# Altium schematic symbol library TI Power Management DC-DC Controller (External Switch).SchLib: 349 symbols (part 12 of 26)
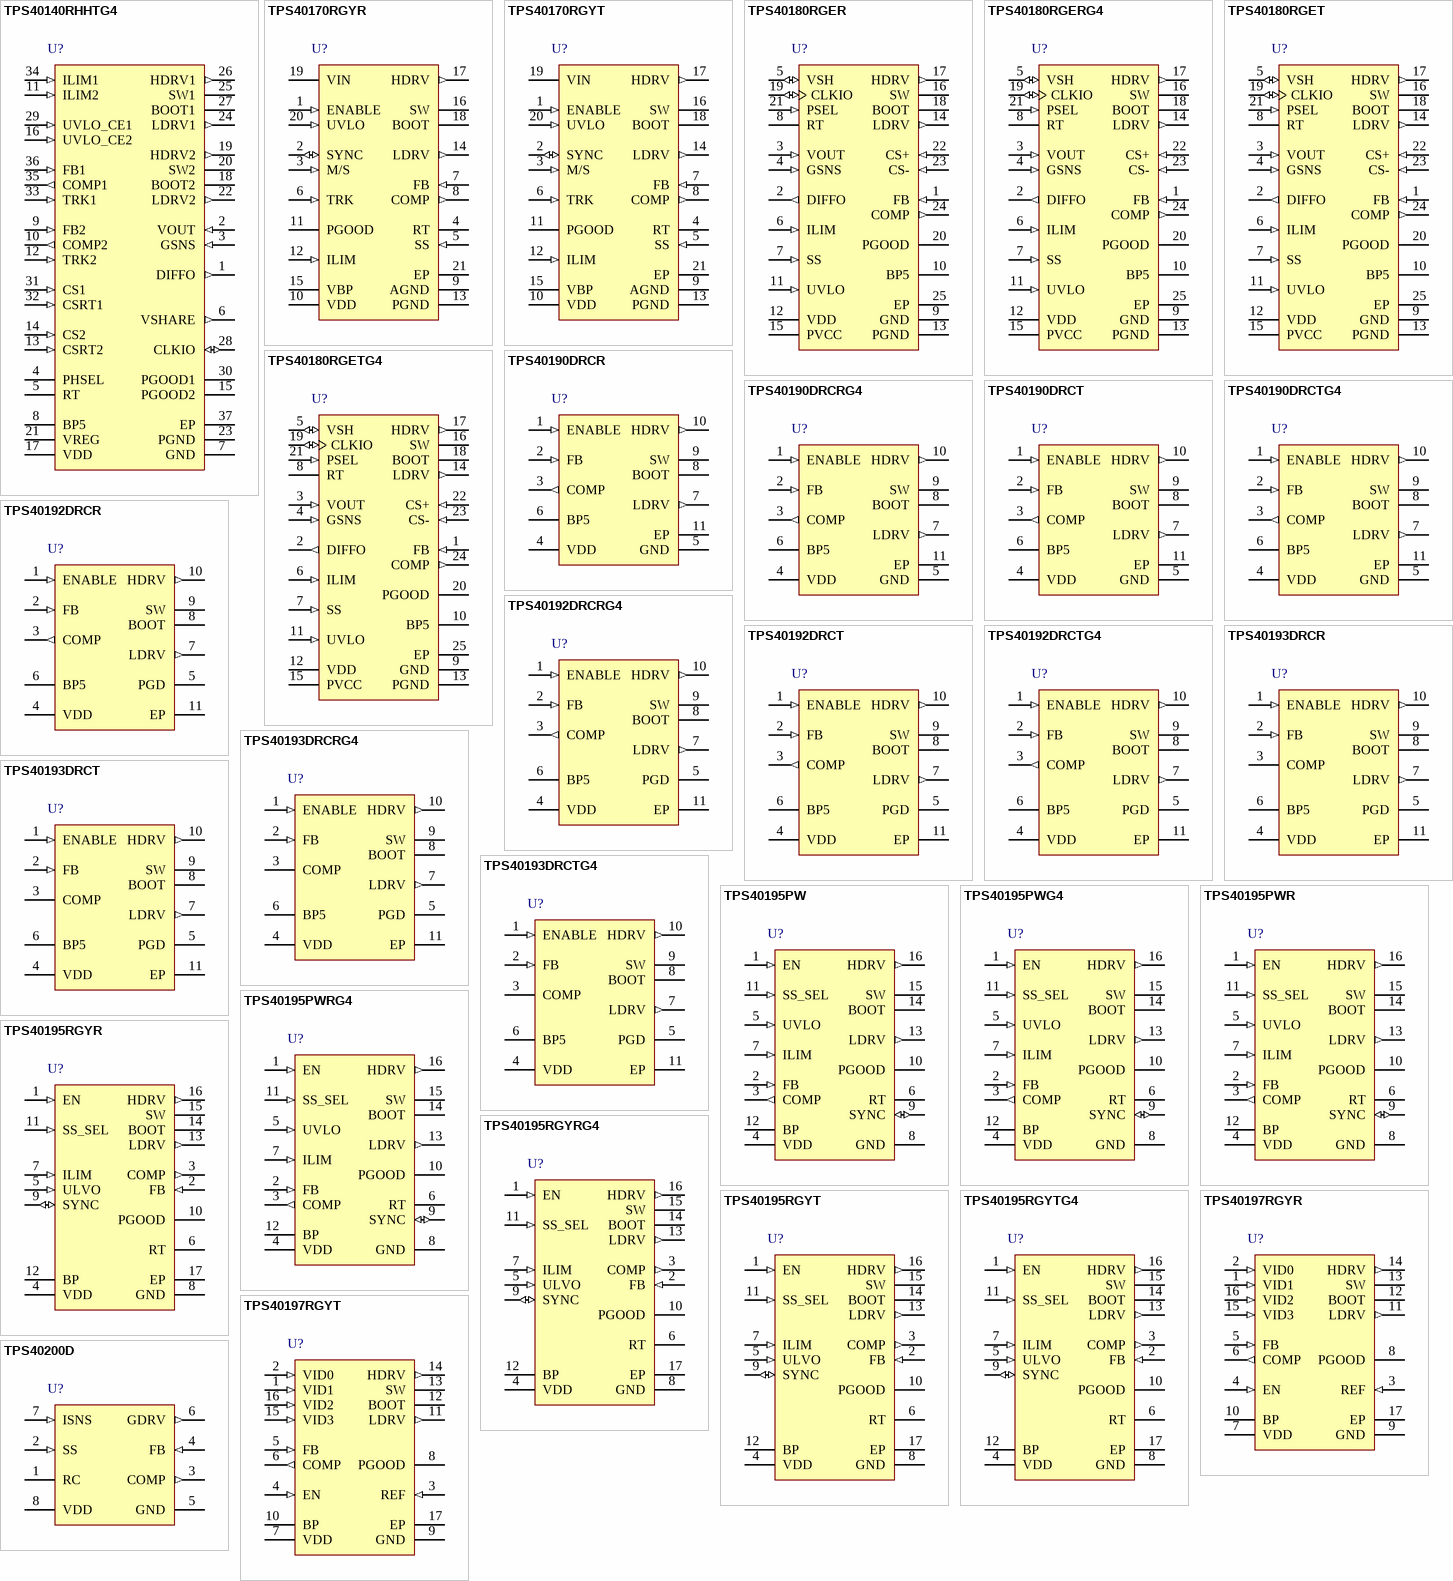
[diagram p25: symbols TPS40140RHHTG4 to TPS40200D]

## TPS40180RGER
designator U?
Single Phase Stackable Controller, 87.5 % Duty Cycle, 2 to 40 V, -40 to 85 degC, 24-pin VQFN (RGE), Green (RoHS & no Sb/Br); Manufacturer: Texas Instruments; PartNumber: TPS40180RGER; Duty Cycle(Max)(%): 87.5; Iout(Max)(A): 25; Regulated Outputs(#): 1; SubFamily: Step-Down Controller; Switching Frequency(Max)(kHz): 1000; Synchronous Rectification: TRUE; Topology: Stackable Multiphase; Vin(Max)(V): 40; Vin(Min)(V): 2; Vout(Max)(V): 5.8; Vout(Min)(V): 0.7; DatasheetVersion: SLVS753B; PackageVersion: revG, Jul-2011; PackageReference: RGE24-2450X2450TP; PackageDescription: 24-Pin Plastic Quad Flatpack No-Lead, 4 x 4 mm Body, 0.5 mm Pitch; Supplier 1: Digi-Key; Supplier Part Number 1: 296-21973-2-ND; Eco-Plan: Green (RoHS & no Sb/Br); Mounting Technology: Surface Mount; Code_JEDEC: MO-220; ComponentLink1Description: Datasheet; ComponentLink1URL: http://www.ti.com/general/docs/lit/getliterature.tsp?genericPartNumber=TPS40180&fileType=pdf; ComponentLink2Description: Package Specification; ComponentLink2URL: http://www.ti.com/litv/pdf/mpqf124f
footprint RGE24-2450X2450TP (QFN, 24-Leads, Body 4x4mm, Pitch 0.5mm, Thermal Pad 2.45x2.45mm, TI Recommended)
pins: 1 FB (in) "Inverting input to the internal error amplifier. Normally this pin is at the reference voltage of 700 mV.", 2 DIFFO (out) "Output of the remote sense amplifier. Amplifier is fixed gain of 1 differential mode and is used for output voltage sensing at the load to eliminate distribution drops.", 3 VOUT (in) "Positive input to the remote sense amplifier. Amplifier is fixed gain of 1 differential mode and is used for output voltage sensing at the load to eliminate distribution drops.", 4 GSNS (in) "Negative input to the remote sense amplifier. Amplifier is fixed gain of 1 differential mode and is used for output voltage sensing at the load to eliminate distribution drops.", 5 VSH (io) "Pin is either an input or an output. If the chip is configured as a voltage loop master the valley voltage is output on this pin and is distributed to the slave devices. If configured as a voltage loop slave, the master VSH (See Datasheet)", 6 ILIM (in) "Programs the overcurrent limit of the device. Connecting a resistor from this pin to VSH and another to VOUT on the voltage loop master sets a voltage above VSH. COMP is not allowed to exceed this voltage. If the load (See Datasheet)", 7 SS (in) "Soft-start input. This pin determines the startup ramp time for the converter as well as overcurrent and other fault recovery timing. The voltage at this pin is applied as a reference to the error amplifier. While this (See Datasheet)", 8 RT "Frequency programming pin. Connecting a resistor from this pin to GND sets the switching frequency of the device. If this pin is connected to VDD or PVCC, the device is a clock slave and gets its time base from CLKIO of the (See Datasheet)", 9 GND (power) "Signal level ground connection for the device. All low level signals at the device should be referenced to this pin. No power level current should be allowed to flow through the GND pin copper areas on the board. Connect to (See Datasheet)", 10 BP5 (power) "Electrically quiet 5-V supply for the internal circuitry inside the device. If VDD is above 5 V, connect a 20-ohm resistor from PVCC to this pin and a 100-nF capacitor from this pin to GND. For VDD at 5 V, this pin can be (See Datasheet)", 11 UVLO (in) "UVLO input for the device. A resistor divider from VDD sets the turn on voltage for the device. Below this voltage, the device is in a low quiescent current state. Pulling this pin to ground shuts down the device, and is (See Datasheet)", 12 VDD (power) "Power input for the LDO on the device.", 13 PGND (power) "Common connection for the power circuits on the device. This pin should be electrically close to the source of the FET connected to LDRV. Connected to GND only at the thermal pad for best results.", 14 LDRV (out) "Gate drive output for the low-side or rectifier FET.", 15 PVCC (power) "Output of the on board LDO. This is the power input for the drivers and bootstrap circuit. The 5.3-V output on this pin is used for external circuitry as long as the total current required to drive the gates of the switching (See Datasheet)", 16 SW (power) "This pin is connected to the source of the high-side or switch FET and is the return path for the floating high-side driver.", 17 HDRV (out) "Gate drive output for the high-side FET. High-side FET turn-on time must not be greater than minimum on-time. See electrical characteristics table for the minimum on time of the pulse width modulator.", 18 BOOT (power) "Bootstrap pin for the high-side driver. A 100-nF capacitor is connected from this pin to SW and provides power to the high-side driver when the high-side FET is turned on.", 19 CLKIO (io) "Clock and phase timing output while the device is configured as a clock master. In clock slave mode, the master CLKIO pin is connected to the slave CLKIO pin to provide time base information to the slave.", 20 PGOOD (oc) "Power good output. This open drain output pulls low when the device is in any state other than in normal regulation. Active soft-start, UVLO, overcurrent, undervoltage, overvoltage or overtemperature warning (115degreesC (See Datasheet)", 21 PSEL (in) "Phase select pin. For a clock master, a resistor from this pin to GND determines the CLKIO output. When configured as a clock slave, a resistor from the pin to GND selects the phase relationship that the slave has with the (See Datasheet)", 22 CS+ (in) "Positive input to the current sense amplifier.", 23 CS- (in) "Negative input to the current sense amplifier", 24 COMP (out) "Output of the error amplifier.", 25 EP (power) "Exposed Thermal Pad."

## TPS40180RGERG4
designator U?
Single Phase Stackable Controller, 87.5 % Duty Cycle, 2 to 40 V, -40 to 85 degC, 24-pin VQFN (RGE), Green (RoHS & no Sb/Br); Manufacturer: Texas Instruments; PartNumber: TPS40180RGERG4; Duty Cycle(Max)(%): 87.5; Iout(Max)(A): 25; Regulated Outputs(#): 1; SubFamily: Step-Down Controller; Switching Frequency(Max)(kHz): 1000; Synchronous Rectification: TRUE; Topology: Stackable Multiphase; Vin(Max)(V): 40; Vin(Min)(V): 2; Vout(Max)(V): 5.8; Vout(Min)(V): 0.7; DatasheetVersion: SLVS753B; PackageVersion: revG, Jul-2011; PackageReference: RGE24-2450X2450TP; PackageDescription: 24-Pin Plastic Quad Flatpack No-Lead, 4 x 4 mm Body, 0.5 mm Pitch; Supplier 1: Digi-Key; Supplier Part Number 1: TPS40180RGERG4-ND; Eco-Plan: Green (RoHS & no Sb/Br); Mounting Technology: Surface Mount; Code_JEDEC: MO-220; ComponentLink1Description: Datasheet; ComponentLink1URL: http://www.ti.com/general/docs/lit/getliterature.tsp?genericPartNumber=TPS40180&fileType=pdf; ComponentLink2Description: Package Specification; ComponentLink2URL: http://www.ti.com/litv/pdf/mpqf124f
footprint RGE24-2450X2450TP (QFN, 24-Leads, Body 4x4mm, Pitch 0.5mm, Thermal Pad 2.45x2.45mm, TI Recommended)
pins: 1 FB (in) "Inverting input to the internal error amplifier. Normally this pin is at the reference voltage of 700 mV.", 2 DIFFO (out) "Output of the remote sense amplifier. Amplifier is fixed gain of 1 differential mode and is used for output voltage sensing at the load to eliminate distribution drops.", 3 VOUT (in) "Positive input to the remote sense amplifier. Amplifier is fixed gain of 1 differential mode and is used for output voltage sensing at the load to eliminate distribution drops.", 4 GSNS (in) "Negative input to the remote sense amplifier. Amplifier is fixed gain of 1 differential mode and is used for output voltage sensing at the load to eliminate distribution drops.", 5 VSH (io) "Pin is either an input or an output. If the chip is configured as a voltage loop master the valley voltage is output on this pin and is distributed to the slave devices. If configured as a voltage loop slave, the master VSH (See Datasheet)", 6 ILIM (in) "Programs the overcurrent limit of the device. Connecting a resistor from this pin to VSH and another to VOUT on the voltage loop master sets a voltage above VSH. COMP is not allowed to exceed this voltage. If the load (See Datasheet)", 7 SS (in) "Soft-start input. This pin determines the startup ramp time for the converter as well as overcurrent and other fault recovery timing. The voltage at this pin is applied as a reference to the error amplifier. While this (See Datasheet)", 8 RT "Frequency programming pin. Connecting a resistor from this pin to GND sets the switching frequency of the device. If this pin is connected to VDD or PVCC, the device is a clock slave and gets its time base from CLKIO of the (See Datasheet)", 9 GND (power) "Signal level ground connection for the device. All low level signals at the device should be referenced to this pin. No power level current should be allowed to flow through the GND pin copper areas on the board. Connect to (See Datasheet)", 10 BP5 (power) "Electrically quiet 5-V supply for the internal circuitry inside the device. If VDD is above 5 V, connect a 20-ohm resistor from PVCC to this pin and a 100-nF capacitor from this pin to GND. For VDD at 5 V, this pin can be (See Datasheet)", 11 UVLO (in) "UVLO input for the device. A resistor divider from VDD sets the turn on voltage for the device. Below this voltage, the device is in a low quiescent current state. Pulling this pin to ground shuts down the device, and is (See Datasheet)", 12 VDD (power) "Power input for the LDO on the device.", 13 PGND (power) "Common connection for the power circuits on the device. This pin should be electrically close to the source of the FET connected to LDRV. Connected to GND only at the thermal pad for best results.", 14 LDRV (out) "Gate drive output for the low-side or rectifier FET.", 15 PVCC (power) "Output of the on board LDO. This is the power input for the drivers and bootstrap circuit. The 5.3-V output on this pin is used for external circuitry as long as the total current required to drive the gates of the switching (See Datasheet)", 16 SW (power) "This pin is connected to the source of the high-side or switch FET and is the return path for the floating high-side driver.", 17 HDRV (out) "Gate drive output for the high-side FET. High-side FET turn-on time must not be greater than minimum on-time. See electrical characteristics table for the minimum on time of the pulse width modulator.", 18 BOOT (power) "Bootstrap pin for the high-side driver. A 100-nF capacitor is connected from this pin to SW and provides power to the high-side driver when the high-side FET is turned on.", 19 CLKIO (io) "Clock and phase timing output while the device is configured as a clock master. In clock slave mode, the master CLKIO pin is connected to the slave CLKIO pin to provide time base information to the slave.", 20 PGOOD (oc) "Power good output. This open drain output pulls low when the device is in any state other than in normal regulation. Active soft-start, UVLO, overcurrent, undervoltage, overvoltage or overtemperature warning (115degreesC (See Datasheet)", 21 PSEL (in) "Phase select pin. For a clock master, a resistor from this pin to GND determines the CLKIO output. When configured as a clock slave, a resistor from the pin to GND selects the phase relationship that the slave has with the (See Datasheet)", 22 CS+ (in) "Positive input to the current sense amplifier.", 23 CS- (in) "Negative input to the current sense amplifier", 24 COMP (out) "Output of the error amplifier.", 25 EP (power) "Exposed Thermal Pad."

## TPS40180RGET
designator U?
Single Phase Stackable Controller, 87.5 % Duty Cycle, 2 to 40 V, -40 to 85 degC, 24-pin VQFN (RGE), Green (RoHS & no Sb/Br); Manufacturer: Texas Instruments; PartNumber: TPS40180RGET; Duty Cycle(Max)(%): 87.5; Iout(Max)(A): 25; Regulated Outputs(#): 1; SubFamily: Step-Down Controller; Switching Frequency(Max)(kHz): 1000; Synchronous Rectification: TRUE; Topology: Stackable Multiphase; Vin(Max)(V): 40; Vin(Min)(V): 2; Vout(Max)(V): 5.8; Vout(Min)(V): 0.7; DatasheetVersion: SLVS753B; PackageVersion: revG, Jul-2011; PackageReference: RGE24-2450X2450TP; PackageDescription: 24-Pin Plastic Quad Flatpack No-Lead, 4 x 4 mm Body, 0.5 mm Pitch; Supplier 1: Digi-Key; Supplier Part Number 1: 296-32487-2-ND; Eco-Plan: Green (RoHS & no Sb/Br); Mounting Technology: Surface Mount; Code_JEDEC: MO-220; ComponentLink1Description: Datasheet; ComponentLink1URL: http://www.ti.com/general/docs/lit/getliterature.tsp?genericPartNumber=TPS40180&fileType=pdf; ComponentLink2Description: Package Specification; ComponentLink2URL: http://www.ti.com/litv/pdf/mpqf124f
footprint RGE24-2450X2450TP (QFN, 24-Leads, Body 4x4mm, Pitch 0.5mm, Thermal Pad 2.45x2.45mm, TI Recommended)
pins: 1 FB (in) "Inverting input to the internal error amplifier. Normally this pin is at the reference voltage of 700 mV.", 2 DIFFO (out) "Output of the remote sense amplifier. Amplifier is fixed gain of 1 differential mode and is used for output voltage sensing at the load to eliminate distribution drops.", 3 VOUT (in) "Positive input to the remote sense amplifier. Amplifier is fixed gain of 1 differential mode and is used for output voltage sensing at the load to eliminate distribution drops.", 4 GSNS (in) "Negative input to the remote sense amplifier. Amplifier is fixed gain of 1 differential mode and is used for output voltage sensing at the load to eliminate distribution drops.", 5 VSH (io) "Pin is either an input or an output. If the chip is configured as a voltage loop master the valley voltage is output on this pin and is distributed to the slave devices. If configured as a voltage loop slave, the master VSH (See Datasheet)", 6 ILIM (in) "Programs the overcurrent limit of the device. Connecting a resistor from this pin to VSH and another to VOUT on the voltage loop master sets a voltage above VSH. COMP is not allowed to exceed this voltage. If the load (See Datasheet)", 7 SS (in) "Soft-start input. This pin determines the startup ramp time for the converter as well as overcurrent and other fault recovery timing. The voltage at this pin is applied as a reference to the error amplifier. While this (See Datasheet)", 8 RT "Frequency programming pin. Connecting a resistor from this pin to GND sets the switching frequency of the device. If this pin is connected to VDD or PVCC, the device is a clock slave and gets its time base from CLKIO of the (See Datasheet)", 9 GND (power) "Signal level ground connection for the device. All low level signals at the device should be referenced to this pin. No power level current should be allowed to flow through the GND pin copper areas on the board. Connect to (See Datasheet)", 10 BP5 (power) "Electrically quiet 5-V supply for the internal circuitry inside the device. If VDD is above 5 V, connect a 20-ohm resistor from PVCC to this pin and a 100-nF capacitor from this pin to GND. For VDD at 5 V, this pin can be (See Datasheet)", 11 UVLO (in) "UVLO input for the device. A resistor divider from VDD sets the turn on voltage for the device. Below this voltage, the device is in a low quiescent current state. Pulling this pin to ground shuts down the device, and is (See Datasheet)", 12 VDD (power) "Power input for the LDO on the device.", 13 PGND (power) "Common connection for the power circuits on the device. This pin should be electrically close to the source of the FET connected to LDRV. Connected to GND only at the thermal pad for best results.", 14 LDRV (out) "Gate drive output for the low-side or rectifier FET.", 15 PVCC (power) "Output of the on board LDO. This is the power input for the drivers and bootstrap circuit. The 5.3-V output on this pin is used for external circuitry as long as the total current required to drive the gates of the switching (See Datasheet)", 16 SW (power) "This pin is connected to the source of the high-side or switch FET and is the return path for the floating high-side driver.", 17 HDRV (out) "Gate drive output for the high-side FET. High-side FET turn-on time must not be greater than minimum on-time. See electrical characteristics table for the minimum on time of the pulse width modulator.", 18 BOOT (power) "Bootstrap pin for the high-side driver. A 100-nF capacitor is connected from this pin to SW and provides power to the high-side driver when the high-side FET is turned on.", 19 CLKIO (io) "Clock and phase timing output while the device is configured as a clock master. In clock slave mode, the master CLKIO pin is connected to the slave CLKIO pin to provide time base information to the slave.", 20 PGOOD (oc) "Power good output. This open drain output pulls low when the device is in any state other than in normal regulation. Active soft-start, UVLO, overcurrent, undervoltage, overvoltage or overtemperature warning (115degreesC (See Datasheet)", 21 PSEL (in) "Phase select pin. For a clock master, a resistor from this pin to GND determines the CLKIO output. When configured as a clock slave, a resistor from the pin to GND selects the phase relationship that the slave has with the (See Datasheet)", 22 CS+ (in) "Positive input to the current sense amplifier.", 23 CS- (in) "Negative input to the current sense amplifier", 24 COMP (out) "Output of the error amplifier.", 25 EP (power) "Exposed Thermal Pad."

## TPS40180RGETG4
designator U?
Single Phase Stackable Controller, 87.5 % Duty Cycle, 2 to 40 V, -40 to 85 degC, 24-pin VQFN (RGE), Green (RoHS & no Sb/Br); Manufacturer: Texas Instruments; PartNumber: TPS40180RGETG4; Duty Cycle(Max)(%): 87.5; Iout(Max)(A): 25; Regulated Outputs(#): 1; SubFamily: Step-Down Controller; Switching Frequency(Max)(kHz): 1000; Synchronous Rectification: TRUE; Topology: Stackable Multiphase; Vin(Max)(V): 40; Vin(Min)(V): 2; Vout(Max)(V): 5.8; Vout(Min)(V): 0.7; DatasheetVersion: SLVS753B; PackageVersion: revG, Jul-2011; PackageReference: RGE24-2450X2450TP; PackageDescription: 24-Pin Plastic Quad Flatpack No-Lead, 4 x 4 mm Body, 0.5 mm Pitch; Supplier 1: Digi-Key; Supplier Part Number 1: TPS40180RGETG4-ND; Eco-Plan: Green (RoHS & no Sb/Br); Mounting Technology: Surface Mount; Code_JEDEC: MO-220; ComponentLink1Description: Datasheet; ComponentLink1URL: http://www.ti.com/general/docs/lit/getliterature.tsp?genericPartNumber=TPS40180&fileType=pdf; ComponentLink2Description: Package Specification; ComponentLink2URL: http://www.ti.com/litv/pdf/mpqf124f
footprint RGE24-2450X2450TP (QFN, 24-Leads, Body 4x4mm, Pitch 0.5mm, Thermal Pad 2.45x2.45mm, TI Recommended)
pins: 1 FB (in) "Inverting input to the internal error amplifier. Normally this pin is at the reference voltage of 700 mV.", 2 DIFFO (out) "Output of the remote sense amplifier. Amplifier is fixed gain of 1 differential mode and is used for output voltage sensing at the load to eliminate distribution drops.", 3 VOUT (in) "Positive input to the remote sense amplifier. Amplifier is fixed gain of 1 differential mode and is used for output voltage sensing at the load to eliminate distribution drops.", 4 GSNS (in) "Negative input to the remote sense amplifier. Amplifier is fixed gain of 1 differential mode and is used for output voltage sensing at the load to eliminate distribution drops.", 5 VSH (io) "Pin is either an input or an output. If the chip is configured as a voltage loop master the valley voltage is output on this pin and is distributed to the slave devices. If configured as a voltage loop slave, the master VSH (See Datasheet)", 6 ILIM (in) "Programs the overcurrent limit of the device. Connecting a resistor from this pin to VSH and another to VOUT on the voltage loop master sets a voltage above VSH. COMP is not allowed to exceed this voltage. If the load (See Datasheet)", 7 SS (in) "Soft-start input. This pin determines the startup ramp time for the converter as well as overcurrent and other fault recovery timing. The voltage at this pin is applied as a reference to the error amplifier. While this (See Datasheet)", 8 RT "Frequency programming pin. Connecting a resistor from this pin to GND sets the switching frequency of the device. If this pin is connected to VDD or PVCC, the device is a clock slave and gets its time base from CLKIO of the (See Datasheet)", 9 GND (power) "Signal level ground connection for the device. All low level signals at the device should be referenced to this pin. No power level current should be allowed to flow through the GND pin copper areas on the board. Connect to (See Datasheet)", 10 BP5 (power) "Electrically quiet 5-V supply for the internal circuitry inside the device. If VDD is above 5 V, connect a 20-ohm resistor from PVCC to this pin and a 100-nF capacitor from this pin to GND. For VDD at 5 V, this pin can be (See Datasheet)", 11 UVLO (in) "UVLO input for the device. A resistor divider from VDD sets the turn on voltage for the device. Below this voltage, the device is in a low quiescent current state. Pulling this pin to ground shuts down the device, and is (See Datasheet)", 12 VDD (power) "Power input for the LDO on the device.", 13 PGND (power) "Common connection for the power circuits on the device. This pin should be electrically close to the source of the FET connected to LDRV. Connected to GND only at the thermal pad for best results.", 14 LDRV (out) "Gate drive output for the low-side or rectifier FET.", 15 PVCC (power) "Output of the on board LDO. This is the power input for the drivers and bootstrap circuit. The 5.3-V output on this pin is used for external circuitry as long as the total current required to drive the gates of the switching (See Datasheet)", 16 SW (power) "This pin is connected to the source of the high-side or switch FET and is the return path for the floating high-side driver.", 17 HDRV (out) "Gate drive output for the high-side FET. High-side FET turn-on time must not be greater than minimum on-time. See electrical characteristics table for the minimum on time of the pulse width modulator.", 18 BOOT (power) "Bootstrap pin for the high-side driver. A 100-nF capacitor is connected from this pin to SW and provides power to the high-side driver when the high-side FET is turned on.", 19 CLKIO (io) "Clock and phase timing output while the device is configured as a clock master. In clock slave mode, the master CLKIO pin is connected to the slave CLKIO pin to provide time base information to the slave.", 20 PGOOD (oc) "Power good output. This open drain output pulls low when the device is in any state other than in normal regulation. Active soft-start, UVLO, overcurrent, undervoltage, overvoltage or overtemperature warning (115degreesC (See Datasheet)", 21 PSEL (in) "Phase select pin. For a clock master, a resistor from this pin to GND determines the CLKIO output. When configured as a clock slave, a resistor from the pin to GND selects the phase relationship that the slave has with the (See Datasheet)", 22 CS+ (in) "Positive input to the current sense amplifier.", 23 CS- (in) "Negative input to the current sense amplifier", 24 COMP (out) "Output of the error amplifier.", 25 EP (power) "Exposed Thermal Pad."

## TPS40190DRCR
designator U?
Low Pin Count Synchronous Buck DC / DC Controller, 85 % Duty Cycle, 4.5 to 15 V, -40 to 85 degC, 10-pin SON (DRC), Green (RoHS & no Sb/Br); Manufacturer: Texas Instruments; PartNumber: TPS40190DRCR; Duty Cycle(Max)(%): 85; Iout(Max)(A): 20; Regulated Outputs(#): 1; SubFamily: Step-Down Controller; Switching Frequency(Max)(kHz): 300; Synchronous Rectification: TRUE; Vin(Max)(V): 15; Vin(Min)(V): 4.5; Vout(Max)(V): 12.75; Vout(Min)(V): 0.6; DatasheetVersion: SLUS658C; PackageVersion: revL, Sep-2011; PackageReference: DRC10-2400X1650TP; PackageDescription: 10-Pin Plastic Small Outline No-Lead, 3 x 3 x 1 mm Body, 0.5 mm Pitch, Exposed Pad; Supplier 1: Digi-Key; Supplier Part Number 1: 296-18340-2-ND; Eco-Plan: Green (RoHS & no Sb/Br); Topology: Buck; Mounting Technology: Surface Mount; ComponentLink1Description: Datasheet; ComponentLink1URL: http://www.ti.com/general/docs/lit/getliterature.tsp?genericPartNumber=TPS40190&fileType=pdf; ComponentLink2Description: Package Specification; ComponentLink2URL: http://www.ti.com/litv/pdf/mpds117k
footprint DRC10-2400X1650TP (SON, 10-Leads, Body 3x3mm, Pitch 0.5mm, Thermal Pad 2.4x1.65mm, TI Recommended)
pins: 1 ENABLE (in) "Logic level input that starts or stops the controller from an external user command. A high level turns the  controller on. This pin has a high-impedance internal pull-up integrated into the device. Because this pin is high (See Datasheet)", 2 FB (in) "Inverting input to the error amplifier", 3 COMP (out) "Output of the error amplifier. Connecting a resistance from COMP to GND sets the output short circuit detection threshold. See applications information for details.", 4 VDD (power) "Power input to the controller", 5 GND (power) "Common connection for the controller", 6 BP5 (power) "Output bypass for the internal regulator. Connect 4.7-uF capacitor from this pin to GND. Low power, low noise loads may be connected here if desired. The sum of the external load and the gate drive requirements must not (See Datasheet)", 7 LDRV (out) "Output to the rectifier FET gate", 8 BOOT (power) "Power supply for the flying high-side driver", 9 SW (power) "Sense line for the adaptive anti cross conduction circuitry. Serves as common connection for the flying high side FET driver", 10 HDRV (out) "Bootstrapped output for driving the gate of the high side N channel FET.", 11 EP "Exposed thermal pad."

## TPS40190DRCRG4
designator U?
Low Pin Count Synchronous Buck DC / DC Controller, 85 % Duty Cycle, 4.5 to 15 V, -40 to 85 degC, 10-pin SON (DRC), Green (RoHS & no Sb/Br); Manufacturer: Texas Instruments; PartNumber: TPS40190DRCRG4; Duty Cycle(Max)(%): 85; Iout(Max)(A): 20; Regulated Outputs(#): 1; SubFamily: Step-Down Controller; Switching Frequency(Max)(kHz): 300; Synchronous Rectification: TRUE; Vin(Max)(V): 15; Vin(Min)(V): 4.5; Vout(Max)(V): 12.75; Vout(Min)(V): 0.6; DatasheetVersion: SLUS658C; PackageVersion: revL, Sep-2011; PackageReference: DRC10-2400X1650TP; PackageDescription: 10-Pin Plastic Small Outline No-Lead, 3 x 3 x 1 mm Body, 0.5 mm Pitch, Exposed Pad; Supplier 1: Digi-Key; Supplier Part Number 1: TPS40190DRCRG4-ND; Eco-Plan: Green (RoHS & no Sb/Br); Topology: Buck; Mounting Technology: Surface Mount; ComponentLink1Description: Datasheet; ComponentLink1URL: http://www.ti.com/general/docs/lit/getliterature.tsp?genericPartNumber=TPS40190&fileType=pdf; ComponentLink2Description: Package Specification; ComponentLink2URL: http://www.ti.com/litv/pdf/mpds117k
footprint DRC10-2400X1650TP (SON, 10-Leads, Body 3x3mm, Pitch 0.5mm, Thermal Pad 2.4x1.65mm, TI Recommended)
pins: 1 ENABLE (in) "Logic level input that starts or stops the controller from an external user command. A high level turns the  controller on. This pin has a high-impedance internal pull-up integrated into the device. Because this pin is high (See Datasheet)", 2 FB (in) "Inverting input to the error amplifier", 3 COMP (out) "Output of the error amplifier. Connecting a resistance from COMP to GND sets the output short circuit detection threshold. See applications information for details.", 4 VDD (power) "Power input to the controller", 5 GND (power) "Common connection for the controller", 6 BP5 (power) "Output bypass for the internal regulator. Connect 4.7-uF capacitor from this pin to GND. Low power, low noise loads may be connected here if desired. The sum of the external load and the gate drive requirements must not (See Datasheet)", 7 LDRV (out) "Output to the rectifier FET gate", 8 BOOT (power) "Power supply for the flying high-side driver", 9 SW (power) "Sense line for the adaptive anti cross conduction circuitry. Serves as common connection for the flying high side FET driver", 10 HDRV (out) "Bootstrapped output for driving the gate of the high side N channel FET.", 11 EP "Exposed thermal pad."

## TPS40190DRCT
designator U?
Low Pin Count Synchronous Buck DC / DC Controller, 85 % Duty Cycle, 4.5 to 15 V, -40 to 85 degC, 10-pin SON (DRC), Green (RoHS & no Sb/Br); Manufacturer: Texas Instruments; PartNumber: TPS40190DRCT; Duty Cycle(Max)(%): 85; Iout(Max)(A): 20; Regulated Outputs(#): 1; SubFamily: Step-Down Controller; Switching Frequency(Max)(kHz): 300; Synchronous Rectification: TRUE; Vin(Max)(V): 15; Vin(Min)(V): 4.5; Vout(Max)(V): 12.75; Vout(Min)(V): 0.6; DatasheetVersion: SLUS658C; PackageVersion: revL, Sep-2011; PackageReference: DRC10-2400X1650TP; PackageDescription: 10-Pin Plastic Small Outline No-Lead, 3 x 3 x 1 mm Body, 0.5 mm Pitch, Exposed Pad; Supplier 1: Digi-Key; Supplier Part Number 1: 296-26965-2-ND; Eco-Plan: Green (RoHS & no Sb/Br); Topology: Buck; Mounting Technology: Surface Mount; ComponentLink1Description: Datasheet; ComponentLink1URL: http://www.ti.com/general/docs/lit/getliterature.tsp?genericPartNumber=TPS40190&fileType=pdf; ComponentLink2Description: Package Specification; ComponentLink2URL: http://www.ti.com/litv/pdf/mpds117k
footprint DRC10-2400X1650TP (SON, 10-Leads, Body 3x3mm, Pitch 0.5mm, Thermal Pad 2.4x1.65mm, TI Recommended)
pins: 1 ENABLE (in) "Logic level input that starts or stops the controller from an external user command. A high level turns the  controller on. This pin has a high-impedance internal pull-up integrated into the device. Because this pin is high (See Datasheet)", 2 FB (in) "Inverting input to the error amplifier", 3 COMP (out) "Output of the error amplifier. Connecting a resistance from COMP to GND sets the output short circuit detection threshold. See applications information for details.", 4 VDD (power) "Power input to the controller", 5 GND (power) "Common connection for the controller", 6 BP5 (power) "Output bypass for the internal regulator. Connect 4.7-uF capacitor from this pin to GND. Low power, low noise loads may be connected here if desired. The sum of the external load and the gate drive requirements must not (See Datasheet)", 7 LDRV (out) "Output to the rectifier FET gate", 8 BOOT (power) "Power supply for the flying high-side driver", 9 SW (power) "Sense line for the adaptive anti cross conduction circuitry. Serves as common connection for the flying high side FET driver", 10 HDRV (out) "Bootstrapped output for driving the gate of the high side N channel FET.", 11 EP "Exposed thermal pad."

## TPS40190DRCTG4
designator U?
Low Pin Count Synchronous Buck DC / DC Controller, 85 % Duty Cycle, 4.5 to 15 V, -40 to 85 degC, 10-pin SON (DRC), Green (RoHS & no Sb/Br); Manufacturer: Texas Instruments; PartNumber: TPS40190DRCTG4; Duty Cycle(Max)(%): 85; Iout(Max)(A): 20; Regulated Outputs(#): 1; SubFamily: Step-Down Controller; Switching Frequency(Max)(kHz): 300; Synchronous Rectification: TRUE; Vin(Max)(V): 15; Vin(Min)(V): 4.5; Vout(Max)(V): 12.75; Vout(Min)(V): 0.6; DatasheetVersion: SLUS658C; PackageVersion: revL, Sep-2011; PackageReference: DRC10-2400X1650TP; PackageDescription: 10-Pin Plastic Small Outline No-Lead, 3 x 3 x 1 mm Body, 0.5 mm Pitch, Exposed Pad; Supplier 1: Digi-Key; Supplier Part Number 1: TPS40190DRCTG4-ND; Eco-Plan: Green (RoHS & no Sb/Br); Topology: Buck; Mounting Technology: Surface Mount; ComponentLink1Description: Datasheet; ComponentLink1URL: http://www.ti.com/general/docs/lit/getliterature.tsp?genericPartNumber=TPS40190&fileType=pdf; ComponentLink2Description: Package Specification; ComponentLink2URL: http://www.ti.com/litv/pdf/mpds117k
footprint DRC10-2400X1650TP (SON, 10-Leads, Body 3x3mm, Pitch 0.5mm, Thermal Pad 2.4x1.65mm, TI Recommended)
pins: 1 ENABLE (in) "Logic level input that starts or stops the controller from an external user command. A high level turns the  controller on. This pin has a high-impedance internal pull-up integrated into the device. Because this pin is high (See Datasheet)", 2 FB (in) "Inverting input to the error amplifier", 3 COMP (out) "Output of the error amplifier. Connecting a resistance from COMP to GND sets the output short circuit detection threshold. See applications information for details.", 4 VDD (power) "Power input to the controller", 5 GND (power) "Common connection for the controller", 6 BP5 (power) "Output bypass for the internal regulator. Connect 4.7-uF capacitor from this pin to GND. Low power, low noise loads may be connected here if desired. The sum of the external load and the gate drive requirements must not (See Datasheet)", 7 LDRV (out) "Output to the rectifier FET gate", 8 BOOT (power) "Power supply for the flying high-side driver", 9 SW (power) "Sense line for the adaptive anti cross conduction circuitry. Serves as common connection for the flying high side FET driver", 10 HDRV (out) "Bootstrapped output for driving the gate of the high side N channel FET.", 11 EP "Exposed thermal pad."

## TPS40192DRCR
designator U?
4.5 to 18 V Input, Low Pin Count, Synchronous Buck Controller with Power Good, 85 % Duty Cycle, -40 to 85 degC, 10-pin SON (DRC), Green (RoHS & no Sb/Br); Manufacturer: Texas Instruments; PartNumber: TPS40192DRCR; Duty Cycle(Max)(%): 85; Iout(Max)(A): 15; Regulated Outputs(#): 1; SubFamily: Step-Down Controller; Switching Frequency(Max)(kHz): 600; Synchronous Rectification: TRUE; Vin(Max)(V): 18; Vin(Min)(V): 4.5; Vout(Max)(V): 14.4; Vout(Min)(V): 0.591; DatasheetVersion: SLUS719D; PackageVersion: revL, Sep-2011; PackageReference: DRC10-2400X1650TP; PackageDescription: 10-Pin Plastic Small Outline No-Lead, 3 x 3 x 1 mm Body, 0.5 mm Pitch, Exposed Pad; Supplier 1: Digi-Key; Supplier Part Number 1: 296-21676-2-ND; Eco-Plan: Green (RoHS & no Sb/Br); Topology: Buck; Mounting Technology: Surface Mount; ComponentLink1Description: Datasheet; ComponentLink1URL: http://www.ti.com/general/docs/lit/getliterature.tsp?genericPartNumber=TPS40192&fileType=pdf; ComponentLink2Description: Package Specification; ComponentLink2URL: http://www.ti.com/litv/pdf/mpds117k
footprint DRC10-2400X1650TP (SON, 10-Leads, Body 3x3mm, Pitch 0.5mm, Thermal Pad 2.4x1.65mm, TI Recommended)
pins: 1 ENABLE (in) "Logic level input which starts or stops the controller from an external user command. A high-level turns the controller on. A weak internal pull-up holds this pin high so that the pin may be left floating if this function is (See Datasheet)", 2 FB (in) "Inverting input to the error amplifier. In normal operation the voltage on this pin is equal to the internal reference voltage (591 mV typical)", 3 COMP (out) "Output of the error amplifier.", 4 VDD (power) "Power input to the controller", 5 PGD (oc) "Open drain power good output", 6 BP5 (power) "Output bypass for the internal regulator. Connect at least 1uF capacitor from this pin to GND. Larger capacitors, up to 4.7uF will improve noise performance when using a low side FET with a gate charge of 25nC or greater. (See Datasheet)", 7 LDRV (out) "Output to the rectifier MOSFET gate", 8 BOOT "Gate drive voltage for the high-side N-channel MOSFET. A capacitor 100 nF typical must be connected between this pin and SW.", 9 SW (power) "Sense line for the adaptive anti-cross conduction circuitry. Serves as common connection for the flying high side MOSFET driver", 10 HDRV (out) "Bootstrapped output for driving the gate of the high side N channel FET.", 11 EP (power) "Thermal pad ground connection. Common reference for the device. Connect to the system GND."

## TPS40192DRCRG4
designator U?
4.5 to 18 V Input, Low Pin Count, Synchronous Buck Controller with Power Good, 85 % Duty Cycle, -40 to 85 degC, 10-pin SON (DRC), Green (RoHS & no Sb/Br); Manufacturer: Texas Instruments; PartNumber: TPS40192DRCRG4; Duty Cycle(Max)(%): 85; Iout(Max)(A): 15; Regulated Outputs(#): 1; SubFamily: Step-Down Controller; Switching Frequency(Max)(kHz): 600; Synchronous Rectification: TRUE; Vin(Max)(V): 18; Vin(Min)(V): 4.5; Vout(Max)(V): 14.4; Vout(Min)(V): 0.591; DatasheetVersion: SLUS719D; PackageVersion: revL, Sep-2011; PackageReference: DRC10-2400X1650TP; PackageDescription: 10-Pin Plastic Small Outline No-Lead, 3 x 3 x 1 mm Body, 0.5 mm Pitch, Exposed Pad; Supplier 1: Digi-Key; Supplier Part Number 1: TPS40192DRCRG4-ND; Eco-Plan: Green (RoHS & no Sb/Br); Topology: Buck; Mounting Technology: Surface Mount; ComponentLink1Description: Datasheet; ComponentLink1URL: http://www.ti.com/general/docs/lit/getliterature.tsp?genericPartNumber=TPS40192&fileType=pdf; ComponentLink2Description: Package Specification; ComponentLink2URL: http://www.ti.com/litv/pdf/mpds117k
footprint DRC10-2400X1650TP (SON, 10-Leads, Body 3x3mm, Pitch 0.5mm, Thermal Pad 2.4x1.65mm, TI Recommended)
pins: 1 ENABLE (in) "Logic level input which starts or stops the controller from an external user command. A high-level turns the controller on. A weak internal pull-up holds this pin high so that the pin may be left floating if this function is (See Datasheet)", 2 FB (in) "Inverting input to the error amplifier. In normal operation the voltage on this pin is equal to the internal reference voltage (591 mV typical)", 3 COMP (out) "Output of the error amplifier.", 4 VDD (power) "Power input to the controller", 5 PGD (oc) "Open drain power good output", 6 BP5 (power) "Output bypass for the internal regulator. Connect at least 1uF capacitor from this pin to GND. Larger capacitors, up to 4.7uF will improve noise performance when using a low side FET with a gate charge of 25nC or greater. (See Datasheet)", 7 LDRV (out) "Output to the rectifier MOSFET gate", 8 BOOT "Gate drive voltage for the high-side N-channel MOSFET. A capacitor 100 nF typical must be connected between this pin and SW.", 9 SW (power) "Sense line for the adaptive anti-cross conduction circuitry. Serves as common connection for the flying high side MOSFET driver", 10 HDRV (out) "Bootstrapped output for driving the gate of the high side N channel FET.", 11 EP (power) "Thermal pad ground connection. Common reference for the device. Connect to the system GND."

## TPS40192DRCT
designator U?
4.5 to 18 V Input, Low Pin Count, Synchronous Buck Controller with Power Good, 85 % Duty Cycle, -40 to 85 degC, 10-pin SON (DRC), Green (RoHS & no Sb/Br); Manufacturer: Texas Instruments; PartNumber: TPS40192DRCT; Duty Cycle(Max)(%): 85; Iout(Max)(A): 15; Regulated Outputs(#): 1; SubFamily: Step-Down Controller; Switching Frequency(Max)(kHz): 600; Synchronous Rectification: TRUE; Vin(Max)(V): 18; Vin(Min)(V): 4.5; Vout(Max)(V): 14.4; Vout(Min)(V): 0.591; DatasheetVersion: SLUS719D; PackageVersion: revL, Sep-2011; PackageReference: DRC10-2400X1650TP; PackageDescription: 10-Pin Plastic Small Outline No-Lead, 3 x 3 x 1 mm Body, 0.5 mm Pitch, Exposed Pad; Supplier 1: Digi-Key; Supplier Part Number 1: 296-26966-2-ND; Eco-Plan: Green (RoHS & no Sb/Br); Topology: Buck; Mounting Technology: Surface Mount; ComponentLink1Description: Datasheet; ComponentLink1URL: http://www.ti.com/general/docs/lit/getliterature.tsp?genericPartNumber=TPS40192&fileType=pdf; ComponentLink2Description: Package Specification; ComponentLink2URL: http://www.ti.com/litv/pdf/mpds117k
footprint DRC10-2400X1650TP (SON, 10-Leads, Body 3x3mm, Pitch 0.5mm, Thermal Pad 2.4x1.65mm, TI Recommended)
pins: 1 ENABLE (in) "Logic level input which starts or stops the controller from an external user command. A high-level turns the controller on. A weak internal pull-up holds this pin high so that the pin may be left floating if this function is (See Datasheet)", 2 FB (in) "Inverting input to the error amplifier. In normal operation the voltage on this pin is equal to the internal reference voltage (591 mV typical)", 3 COMP (out) "Output of the error amplifier.", 4 VDD (power) "Power input to the controller", 5 PGD (oc) "Open drain power good output", 6 BP5 (power) "Output bypass for the internal regulator. Connect at least 1uF capacitor from this pin to GND. Larger capacitors, up to 4.7uF will improve noise performance when using a low side FET with a gate charge of 25nC or greater. (See Datasheet)", 7 LDRV (out) "Output to the rectifier MOSFET gate", 8 BOOT "Gate drive voltage for the high-side N-channel MOSFET. A capacitor 100 nF typical must be connected between this pin and SW.", 9 SW (power) "Sense line for the adaptive anti-cross conduction circuitry. Serves as common connection for the flying high side MOSFET driver", 10 HDRV (out) "Bootstrapped output for driving the gate of the high side N channel FET.", 11 EP (power) "Thermal pad ground connection. Common reference for the device. Connect to the system GND."

## TPS40192DRCTG4
designator U?
4.5 to 18 V Input, Low Pin Count, Synchronous Buck Controller with Power Good, 85 % Duty Cycle, -40 to 85 degC, 10-pin SON (DRC), Green (RoHS & no Sb/Br); Manufacturer: Texas Instruments; PartNumber: TPS40192DRCTG4; Duty Cycle(Max)(%): 85; Iout(Max)(A): 15; Regulated Outputs(#): 1; SubFamily: Step-Down Controller; Switching Frequency(Max)(kHz): 600; Synchronous Rectification: TRUE; Vin(Max)(V): 18; Vin(Min)(V): 4.5; Vout(Max)(V): 14.4; Vout(Min)(V): 0.591; DatasheetVersion: SLUS719D; PackageVersion: revL, Sep-2011; PackageReference: DRC10-2400X1650TP; PackageDescription: 10-Pin Plastic Small Outline No-Lead, 3 x 3 x 1 mm Body, 0.5 mm Pitch, Exposed Pad; Supplier 1: Digi-Key; Supplier Part Number 1: TPS40192DRCTG4-ND; Eco-Plan: Green (RoHS & no Sb/Br); Topology: Buck; Mounting Technology: Surface Mount; ComponentLink1Description: Datasheet; ComponentLink1URL: http://www.ti.com/general/docs/lit/getliterature.tsp?genericPartNumber=TPS40192&fileType=pdf; ComponentLink2Description: Package Specification; ComponentLink2URL: http://www.ti.com/litv/pdf/mpds117k
footprint DRC10-2400X1650TP (SON, 10-Leads, Body 3x3mm, Pitch 0.5mm, Thermal Pad 2.4x1.65mm, TI Recommended)
pins: 1 ENABLE (in) "Logic level input which starts or stops the controller from an external user command. A high-level turns the controller on. A weak internal pull-up holds this pin high so that the pin may be left floating if this function is (See Datasheet)", 2 FB (in) "Inverting input to the error amplifier. In normal operation the voltage on this pin is equal to the internal reference voltage (591 mV typical)", 3 COMP (out) "Output of the error amplifier.", 4 VDD (power) "Power input to the controller", 5 PGD (oc) "Open drain power good output", 6 BP5 (power) "Output bypass for the internal regulator. Connect at least 1uF capacitor from this pin to GND. Larger capacitors, up to 4.7uF will improve noise performance when using a low side FET with a gate charge of 25nC or greater. (See Datasheet)", 7 LDRV (out) "Output to the rectifier MOSFET gate", 8 BOOT "Gate drive voltage for the high-side N-channel MOSFET. A capacitor 100 nF typical must be connected between this pin and SW.", 9 SW (power) "Sense line for the adaptive anti-cross conduction circuitry. Serves as common connection for the flying high side MOSFET driver", 10 HDRV (out) "Bootstrapped output for driving the gate of the high side N channel FET.", 11 EP (power) "Thermal pad ground connection. Common reference for the device. Connect to the system GND."

## TPS40193DRCR
designator U?
4.5 to 18 V Input, Low Pin Count Synchronous Buck Controller with Power Good, 85 % Duty Cycle, -40 to 85 degC, 10-pin SON (DRC), Green (RoHS & no Sb/Br); Manufacturer: Texas Instruments; PartNumber: TPS40193DRCR; Duty Cycle(Max)(%): 85; Iout(Max)(A): 20; Regulated Outputs(#): 1; SubFamily: Step-Down Controller; Switching Frequency(Max)(kHz): 300; Synchronous Rectification: TRUE; Vin(Max)(V): 18; Vin(Min)(V): 4.5; Vout(Max)(V): 14.4; Vout(Min)(V): 0.591; DatasheetVersion: SLUS719D; PackageVersion: revL, Sep-2011; PackageReference: DRC10-2400X1650TP; PackageDescription: 10-Pin Plastic Small Outline No-Lead, 3 x 3 x 1 mm Body, 0.5 mm Pitch, Exposed Pad; Supplier 1: Digi-Key; Supplier Part Number 1: 296-21677-2-ND; Eco-Plan: Green (RoHS & no Sb/Br); Topology: Buck; Mounting Technology: Surface Mount; ComponentLink1Description: Datasheet; ComponentLink1URL: http://www.ti.com/general/docs/lit/getliterature.tsp?genericPartNumber=TPS40193&fileType=pdf; ComponentLink2Description: Package Specification; ComponentLink2URL: http://www.ti.com/litv/pdf/mpds117k
footprint DRC10-2400X1650TP (SON, 10-Leads, Body 3x3mm, Pitch 0.5mm, Thermal Pad 2.4x1.65mm, TI Recommended)
pins: 1 ENABLE (in) "Logic level input which starts or stops the controller from an external user command. A high-level turns the controller on. A weak internal pull-up holds this pin high so that the pin may be left floating if this function is (See Datasheet)", 2 FB (in) "Inverting input to the error amplifier. In normal operation the voltage on this pin is equal to the internal reference voltage (591 mV typical)", 3 COMP "Output of the error amplifier.", 4 VDD (power) "Power input to the controller", 5 PGD (oc) "Open drain power good output", 6 BP5 (power) "Output bypass for the internal regulator. Connect at least 1uF capacitor from this pin to GND. Larger capacitors, up to 4.7uF will improve noise performance when using a low side FET with a gate charge of 25nC or greater. (See Datasheet)", 7 LDRV (out) "Output to the rectifier MOSFET gate", 8 BOOT (power) "Gate drive voltage for the high-side N-channel MOSFET. A capacitor 100 nF typical must be connected between this pin and SW.", 9 SW (power) "Sense line for the adaptive anti-cross conduction circuitry. Serves as common connection for the flying high side MOSFET driver", 10 HDRV (out) "Bootstrapped output for driving the gate of the high side N channel FET.", 11 EP (power) "Thermal pad ground connection. Common reference for the device. Connect to the system GND."

## TPS40193DRCRG4
designator U?
4.5 to 18 V Input, Low Pin Count Synchronous Buck Controller with Power Good, 85 % Duty Cycle, -40 to 85 degC, 10-pin SON (DRC), Green (RoHS & no Sb/Br); Manufacturer: Texas Instruments; PartNumber: TPS40193DRCRG4; Duty Cycle(Max)(%): 85; Iout(Max)(A): 20; Regulated Outputs(#): 1; SubFamily: Step-Down Controller; Switching Frequency(Max)(kHz): 300; Synchronous Rectification: TRUE; Vin(Max)(V): 18; Vin(Min)(V): 4.5; Vout(Max)(V): 14.4; Vout(Min)(V): 0.591; DatasheetVersion: SLUS719D; PackageVersion: revL, Sep-2011; PackageReference: DRC10-2400X1650TP; PackageDescription: 10-Pin Plastic Small Outline No-Lead, 3 x 3 x 1 mm Body, 0.5 mm Pitch, Exposed Pad; Supplier 1: Digi-Key; Supplier Part Number 1: TPS40193DRCRG4-ND; Eco-Plan: Green (RoHS & no Sb/Br); Topology: Buck; Mounting Technology: Surface Mount; ComponentLink1Description: Datasheet; ComponentLink1URL: http://www.ti.com/general/docs/lit/getliterature.tsp?genericPartNumber=TPS40193&fileType=pdf; ComponentLink2Description: Package Specification; ComponentLink2URL: http://www.ti.com/litv/pdf/mpds117k
footprint DRC10-2400X1650TP (SON, 10-Leads, Body 3x3mm, Pitch 0.5mm, Thermal Pad 2.4x1.65mm, TI Recommended)
pins: 1 ENABLE (in) "Logic level input which starts or stops the controller from an external user command. A high-level turns the controller on. A weak internal pull-up holds this pin high so that the pin may be left floating if this function is (See Datasheet)", 2 FB (in) "Inverting input to the error amplifier. In normal operation the voltage on this pin is equal to the internal reference voltage (591 mV typical)", 3 COMP "Output of the error amplifier.", 4 VDD (power) "Power input to the controller", 5 PGD (oc) "Open drain power good output", 6 BP5 (power) "Output bypass for the internal regulator. Connect at least 1uF capacitor from this pin to GND. Larger capacitors, up to 4.7uF will improve noise performance when using a low side FET with a gate charge of 25nC or greater. (See Datasheet)", 7 LDRV (out) "Output to the rectifier MOSFET gate", 8 BOOT (power) "Gate drive voltage for the high-side N-channel MOSFET. A capacitor 100 nF typical must be connected between this pin and SW.", 9 SW (power) "Sense line for the adaptive anti-cross conduction circuitry. Serves as common connection for the flying high side MOSFET driver", 10 HDRV (out) "Bootstrapped output for driving the gate of the high side N channel FET.", 11 EP (power) "Thermal pad ground connection. Common reference for the device. Connect to the system GND."